# Altium schematic symbol library Diode_On_Semiconductor_MBR0540T1G_eec.SchLib: 1 symbol
Pins are listed as number, name and electrical type; pins without a type are passive.

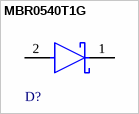
[diagram p0: symbol MBR0540T1G]

## MBR0540T1G
designator D?  (value not drawn)
footprint On_Semiconductor_425-04_MFG
pins: 1 C, 2 A